# Altium schematic symbol library LibExport.SCHLIB: 19 symbols
Pins are listed as number, name and electrical type; pins without a type are passive.

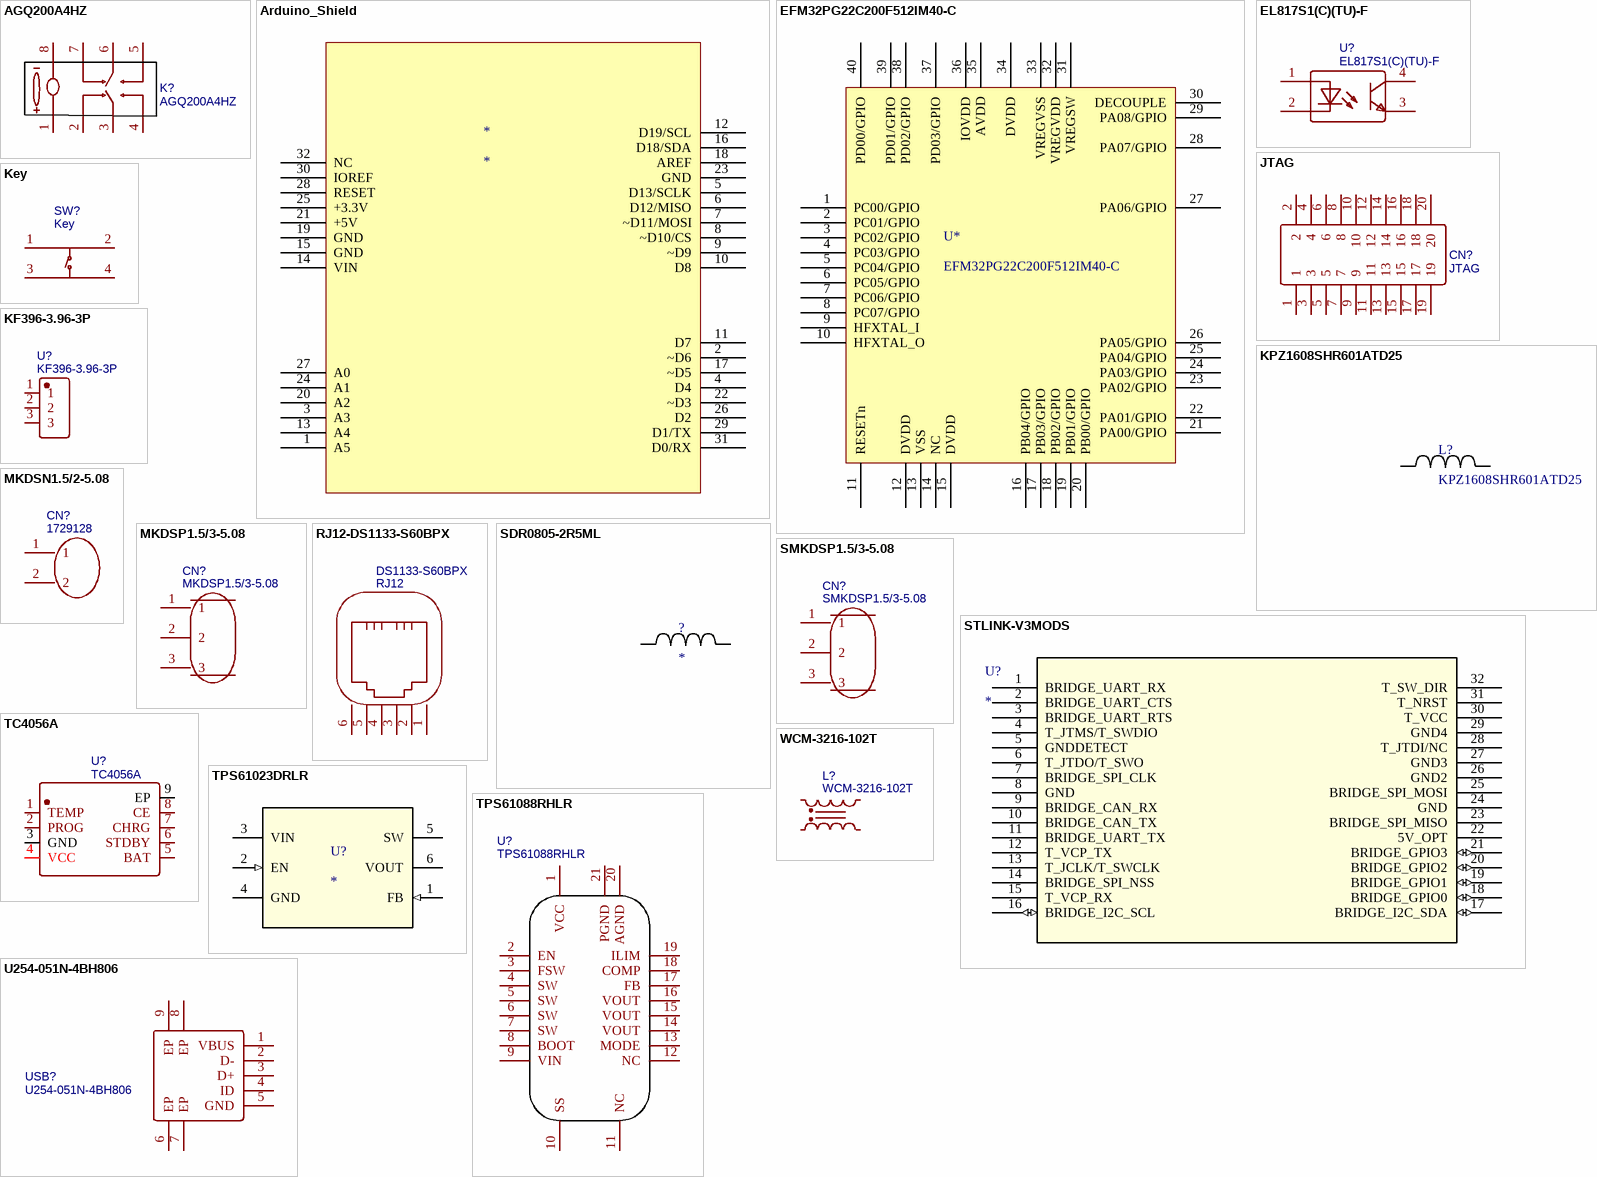
[diagram p0: symbols AGQ200A4HZ to WCM-3216-102T]

## AGQ200A4HZ
designator K?
BOM_Manufacturer: PANASONIC; Contributor: LCSC; BOM_Supplier: LCSC; BOM_Supplier Part: C490150; BOM_Manufacturer Part: AGQ200A4HZ; spicePre: K; spiceSymbolName: AGQ200A4HZ
footprint RELAY-SMD_AGQ200A4HZ
pins: 1, 2, 3, 4, 5, 6, 7, 8

## Arduino_Shield
designator *
footprint Arduino_Shield
pins: 1 A5, 2 ~D6, 3 A3, 4 D4, 5 D13/SCLK, 6 D12/MISO, 7 ~D11/MOSI, 8 ~D10/CS, 9 ~D9, 10 D8, 11 D7, 12 D19/SCL, 13 A4, 14 VIN, 15 GND, 16 D18/SDA, 17 ~D5, 18 AREF, 19 GND, 20 A2, 21 +5V, 22 ~D3, 23 GND, 24 A1, 25 +3.3V, 26 D2, 27 A0, 28 RESET, 29 D1/TX, 30 IOREF, 31 D0/RX, 32 NC

## EFM32PG22C200F512IM40-C
designator U*
BOM_Manufacturer: Silicon Laboratories; BOM_Manufacturer Part: EFM32PG22C200F512IM40-C
footprint QFN-40_L5.0-W5.0-P0.4-Hand
pins: 1 PC00/GPIO, 2 PC01/GPIO, 3 PC02/GPIO, 4 PC03/GPIO, 5 PC04/GPIO, 6 PC05/GPIO, 7 PC06/GPIO, 8 PC07/GPIO, 9 HFXTAL_I "High Frequency Crystal Input", 10 HFXTAL_O "High Frequency Crystal Output", 11 RESETn "Reset Pin. TheRESETn pin is internally  pulled up to DVDD.", 12 DVDD "Digital power supply", 13 VSS "Ground", 14 NC "No-Connect", 15 DVDD "Digital power supply", 16 PB04/GPIO, 17 PB03/GPIO, 18 PB02/GPIO, 19 PB01/GPIO, 20 PB00/GPIO, 21 PA00/GPIO, 22 PA01/GPIO, 23 PA02/GPIO, 24 PA03/GPIO, 25 PA04/GPIO, 26 PA05/GPIO, 27 PA06/GPIO, 28 PA07/GPIO, 29 PA08/GPIO, 30 DECOUPLE "去耦片上稳压器的输出。 该引脚上需要一个外部去耦电容器。", 31 VREGSW "DC-DC稳压器开关节点", 32 VREGVDD "DC-DC稳压器输入电源", 33 VREGVSS "DCDC ground", 34 DVDD "Digital power supply", 35 AVDD "Analog power supply", 36 IOVDD "I/O power supply", 37 PD03/GPIO, 38 PD02/GPIO, 39 PD01/GPIO, 40 PD00/GPIO

## EL817S1(C)(TU)-F
designator U?
BOM_Manufacturer: EVERLIGHT; SMT Type: Basic; BOM_Supplier: LCSC; BOM_Manufacturer Part: EL817S1(C)(TU)-F; BOM_Supplier Part: C106900; BOM_LCSC Assembly: Yes; spicePre: U; spiceSymbolName: EL817S1(C)(TU)-F
footprint SMD-4
pins: 1 AN, 2 CAT, 3 EM, 4 COL

## JTAG
designator CN?
BOM_Manufacturer: Nextronics Engineering; BOM_Manufacturer Part: Z-231011020106; Contributor: LCSC; BOM_Supplier: LCSC; BOM_Supplier Part: C221051; spicePre: C; spiceSymbolName: Z-231011020106
footprint IDC-TH_20P-P2.54-V-R2-C10-S2.54
pins: 1, 2, 3, 4, 5, 6, 7, 8, 9, 10, 11, 12, 13, 14, 15, 16, 17, 18, 19, 20

## Key
designator SW?
BOM_Manufacturer: SHOU HAN; BOM_Manufacturer Part: TS665CJ; Contributor: LCSC; BOM_Supplier: LCSC; BOM_Supplier Part: C393938; spicePre: S; spiceSymbolName: TS665CJ
footprint SW-TH_4P-L6.0-W6.0-P4.50-LS6.5
pins: 1 A, 2 B, 3 C, 4 D

## KF396-3.96-3P
designator U?
BOM_Manufacturer: Cixi Kefa Elec; Contributor: LCSC; BOM_Supplier: LCSC; BOM_Supplier Part: C474895; BOM_Manufacturer Part: KF396-3.96-3P; spicePre: U; spiceSymbolName: KF396-3.96-3P
footprint CONN-TH_3P-P3.96_KF396-3.96-3P
pins: 1, 2, 3

## KPZ1608SHR601ATD25
designator L?
BOM_Manufacturer: TDK; BOM_Manufacturer Part: KPZ1608SHR601ATD25
footprint 0603_L
pins: 1, 2

## MKDSN1.5/2-5.08
designator CN?, comment 1729128
BOM_Manufacturer: Phoenix Contact; BOM_Manufacturer Part: MKDSN1.5/2-5.08; SMT Type: Extend; BOM_Supplier: LCSC; BOM_Supplier Part: C91153; BOM_JLCPCB SMD: Yes; spicePre: C; spiceSymbolName: 1729128
footprint CONN-TH_2P-P5.08_1714984
pins: 1, 2

## MKDSP1.5/3-5.08
designator CN?
1733583; BOM_Manufacturer: Phoenix Contact; BOM_Manufacturer Part: 1733583; Package: SMKDSP1.5/3-5.08
footprint CONN-TH_3P-P5.08_1733583
pins: 1, 2, 3

## RJ12-DS1133-S60BPX
designator DS1133-S60BPX, comment RJ12
BOM_Manufacturer: CONNFLY; BOM_Manufacturer Part: DS1133-S60BPX; BOM_Supplier: LCSC; BOM_Supplier Part: C77859; spicePre: R; spiceSymbolName: DS1133-S60BPX
footprint RJ11-TH_DS1133-S60BPX
pins: 1, 2, 3, 4, 5, 6

## SDR0805-2R5ML
designator ?
Imported; Manufacturer_Part_Number: SDR0805-2R5ML; Vendor: Bourns; Manufacturer_Name: Bourns; RefDes: RefDes; Type: DEV; Value: Value
footprint SDR0805
pins: 1, 2

## SMKDSP1.5/3-5.08
designator CN?
BOM_Manufacturer: Phoenix Contact; BOM_Paste Type: expand; BOM_Supplier: LCSC; BOM_Manufacturer Part: SMKDSP1.5/3-5.08; BOM_Supplier Part: C93072; spicePre: C; spiceSymbolName: SMKDSP1.5/3-5.08
footprint CONN-TH_3P-P5.08_1733583
pins: 1, 2, 3

## STLINK-V3MODS
designator U?
Imported; Manufacturer_Part_Number: STLINK-V3MOS; Built_By: EMA_Rocco; Vendor: STMicroelectronics; Copyright: Copyright (C) 2018 Accelerated Designs. All rights reserved; Value: Value; Type: Type; RefDes: RefDes
footprint mod_stlink-v3m_m
pins: 1 BRIDGE_UART_RX, 2 BRIDGE_UART_CTS, 3 BRIDGE_UART_RTS, 4 T_JTMS/T_SWDIO, 5 GNDDETECT, 6 T_JTDO/T_SWO, 7 BRIDGE_SPI_CLK, 8 GND, 9 BRIDGE_CAN_RX, 10 BRIDGE_CAN_TX, 11 BRIDGE_UART_TX, 12 T_VCP_TX, 13 T_JCLK/T_SWCLK, 14 BRIDGE_SPI_NSS, 15 T_VCP_RX, 16 BRIDGE_I2C_SCL (io), 17 BRIDGE_I2C_SDA (io), 18 BRIDGE_GPIO0 (io), 19 BRIDGE_GPIO1 (io), 20 BRIDGE_GPIO2 (io), 21 BRIDGE_GPIO3 (io), 22 5V_OPT, 23 BRIDGE_SPI_MISO, 24 GND, 25 BRIDGE_SPI_MOSI, 26 GND2, 27 GND3, 28 T_JTDI/NC, 29 GND4, 30 T_VCC, 31 T_NRST, 32 T_SW_DIR

## TC4056A
designator U?
BOM_Manufacturer: FM; SMT Type: Extend; BOM_Supplier: LCSC; BOM_Manufacturer Part: TC4056A; BOM_Supplier Part: C84051; BOM_LCSC Assembly: Yes; spicePre: U; spiceSymbolName: TC4056A
footprint SOP-8_L4.9-W3.9-P1.27-LS6.0-BL-EP
pins: 1 TEMP, 2 PROG, 3 GND, 4 VCC, 5 BAT, 6 STDBY, 7 CHRG, 8 CE, 9 EP

## TPS61023DRLR
designator U?
Imported; Manufacturer: Texas Instruments; PartNumber: TPS61023DRL; Manufacturer_Part_Number: TPS61023DRLR; RefDes: RefDes; Type: DEV; Value: Value; Manufacturer_Name: Texas Instruments
footprint DRL0006A
pins: 1 FB (in), 2 EN (in), 3 VIN (power), 4 GND (power), 5 SW (power), 6 VOUT (power)

## TPS61088RHLR
designator U?
BOM_Manufacturer: TI; SMT Type: Extend; BOM_Supplier: LCSC; BOM_Manufacturer Part: TPS61088RHLR; BOM_Supplier Part: C87357; BOM_LCSC Assembly: Yes; spicePre: U; spiceSymbolName: TPS61088RHLR
footprint VQFN-20_L4.6-W3.6-P0.50-BL
pins: 1 VCC, 2 EN, 3 FSW, 4 SW, 5 SW, 6 SW, 7 SW, 8 BOOT, 9 VIN, 10 SS, 11 NC, 12 NC, 13 MODE, 14 VOUT, 15 VOUT, 16 VOUT, 17 FB, 18 COMP, 19 ILIM, 20 AGND, 21 PGND

## U254-051N-4BH806
designator USB?
microUSB; BOM_Manufacturer: XKB Enterprise; Contributor: LCSC; BOM_Supplier: LCSC; BOM_Supplier Part: C319170; BOM_Manufacturer Part: U254-051N-4BH806; spicePre: U; spiceSymbolName: U254-051N-4BH806
footprint MICRO-USB-SMD_U254-051N-4BH806
pins: 1 VBUS, 2 D-, 3 D+, 4 ID, 5 GND, 6 EP, 7 EP, 8 EP, 9 EP

## WCM-3216-102T
designator L?
BOM_Manufacturer: Kingcore; Contributor: LCSC; BOM_Supplier: LCSC; BOM_Supplier Part: C491696; BOM_Manufacturer Part: WCM-3216-102T; spicePre: L; spiceSymbolName: WCM-3216-102T
footprint FILTER-SMD_1206-4P-L3.2-W1.6-BL-CW
pins: 1, 2, 3, 4